# EAGLE library part PROG-ISP (library usb)
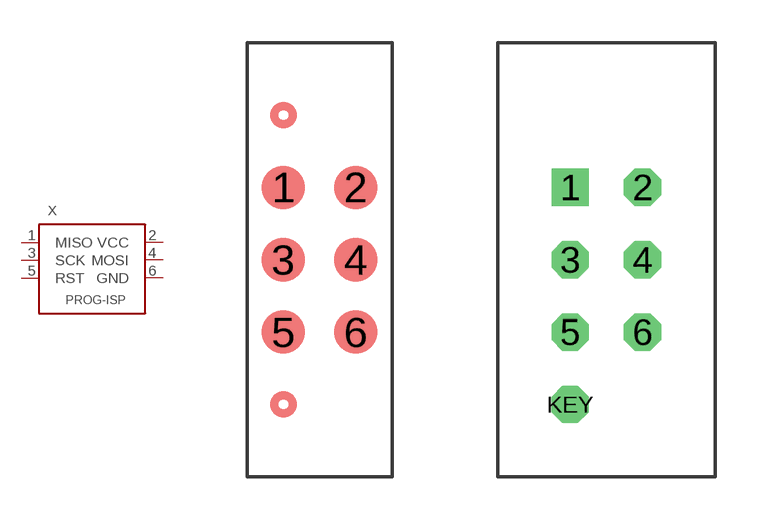
[diagram p1: symbol with the pads of PROG_POGOPIN; footprints PROG_POGOPIN, PROG_PIN]

Designator prefix X

## PROG-ISP6POGOPIN  [PROG_POGOPIN]
1  MISO
2  VCC
3  SCK
4  MOSI
5  RST
6  GND  pwr

## PROG-ISP7PIN  [PROG_PIN]
Pads as for PROG_POGOPIN

## Footprint PROG_POGOPIN (pad centres in mm)
smd 1.524 x 1.524: 1 0,7.62; 2 2.54,7.62; 3 0,5.08; 4 2.54,5.08; 5 0,2.54; 6 2.54,2.54

## Footprint PROG_PIN (pad centres in mm)
drill 0.8 square: 1 0,7.62
drill 0.8 octagon: 2 2.54,7.62; 3 0,5.08; 4 2.54,5.08; 5 0,2.54; 6 2.54,2.54; KEY 0,0